# EAGLE library part PINHD-2X3-SMD (library SquantorConnectors)
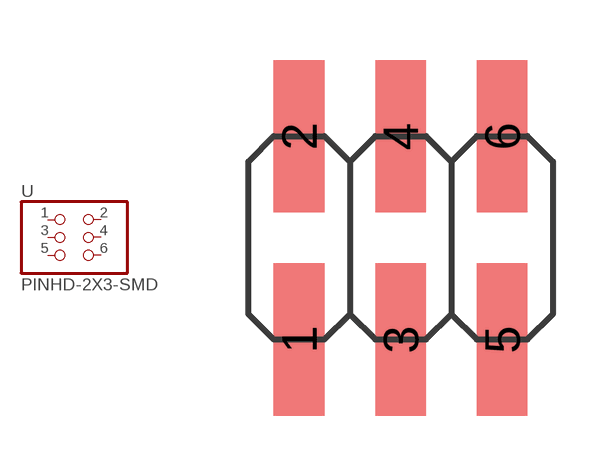
[diagram p46: symbol with the pads of 2X03SMD; footprint 2X03SMD]

Designator prefix -

## PINHD-2X3-SMD  [2X03SMD]
1  1  pas
2  2  pas
3  3  pas
4  4  pas
5  5  pas
6  6  pas

## Footprint 2X03SMD (pad centres in mm)
smd 1.27 x 3.81: 1 -2.54,-2.54; 2 -2.54,2.54; 3 0,-2.54; 4 0,2.54; 5 2.54,-2.54; 6 2.54,2.54